# EAGLE library part STM32F303VE (library integrated_adc)
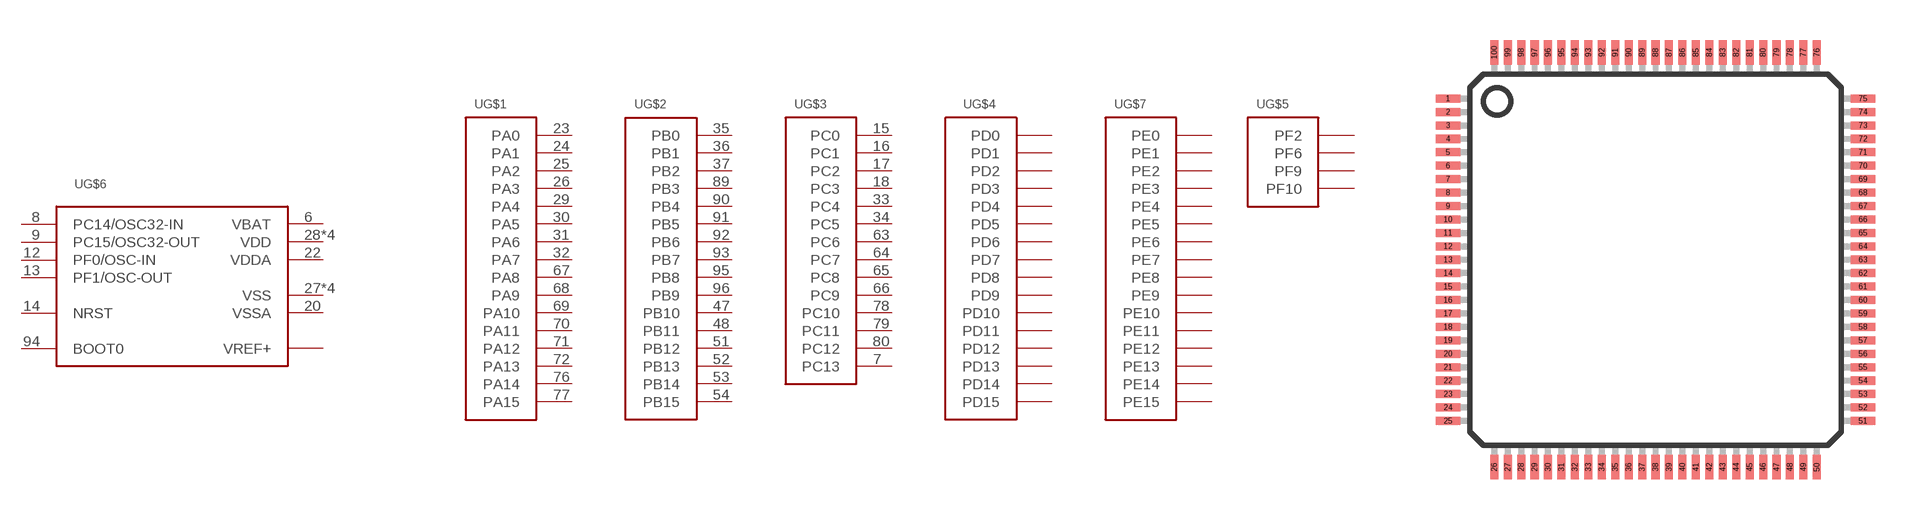
[diagram p4: symbol with the pads of LQFP100; footprint LQFP100]

Designator prefix -; gates G$1=STM32F303VE-PORTA G$2=STM32F303VE-PORTB G$3=STM32F303VE-PORTC G$4=STM32F303VE-PORTD G$5=STM32F303VE-PORTF G$6=STM32F303VE-PWR G$7=STM32F303VE-PORTE

## STM32F303VE  [LQFP100]
1  G$7:PE2  in
2  G$7:PE3  in
3  G$7:PE4  in
4  G$7:PE5  in
5  G$7:PE6  in
6  G$6:VBAT
7  G$3:PC13
8  G$6:PC14/OSC32-IN
9  G$6:PC15/OSC32-OUT
10  G$5:PF9  in
11  G$5:PF10  in
12  G$6:PF0/OSC-IN
13  G$6:PF1/OSC-OUT
14  G$6:NRST
15  G$3:PC0
16  G$3:PC1
17  G$3:PC2
18  G$3:PC3
19  G$5:PF2  in
20  G$6:VSSA
21  G$6:VREF+  in
22  G$6:VDDA
23  G$1:PA0
24  G$1:PA1
25  G$1:PA2
26  G$1:PA3
27  G$6:VSS
28  G$6:VDD
29  G$1:PA4
30  G$1:PA5
31  G$1:PA6
32  G$1:PA7
33  G$3:PC4
34  G$3:PC5
35  G$2:PB0
36  G$2:PB1
37  G$2:PB2
38  G$7:PE7  in
39  G$7:PE8  in
40  G$7:PE9  in
41  G$7:PE10  in
42  G$7:PE11  in
43  G$7:PE12  in
44  G$7:PE13  in
45  G$7:PE14  in
46  G$7:PE15  in
47  G$2:PB10
48  G$2:PB11
49  G$6:VSS
50  G$6:VDD
51  G$2:PB12
52  G$2:PB13
53  G$2:PB14
54  G$2:PB15
55  G$4:PD8  in
56  G$4:PD9  in
57  G$4:PD10  in
58  G$4:PD11  in
59  G$4:PD12  in
60  G$4:PD13  in
61  G$4:PD14  in
62  G$4:PD15  in
63  G$3:PC6
64  G$3:PC7
65  G$3:PC8
66  G$3:PC9
67  G$1:PA8
68  G$1:PA9
69  G$1:PA10
70  G$1:PA11
71  G$1:PA12
72  G$1:PA13
73  G$5:PF6  in
74  G$6:VSS
75  G$6:VDD
76  G$1:PA14
77  G$1:PA15
78  G$3:PC10
79  G$3:PC11
80  G$3:PC12
81  G$4:PD0  in
82  G$4:PD1  in
83  G$4:PD2  in
84  G$4:PD3  in
85  G$4:PD4  in
86  G$4:PD5  in
87  G$4:PD6  in
88  G$4:PD7  in
89  G$2:PB3
90  G$2:PB4
91  G$2:PB5
92  G$2:PB6
93  G$2:PB7
94  G$6:BOOT0
95  G$2:PB8
96  G$2:PB9
97  G$7:PE0  in
98  G$7:PE1  in
99  G$6:VSS
100  G$6:VDD

## Footprint LQFP100 (pad centres in mm)
Low Profile Quad Flat Pack
smd 0.9 x 0.3: 1 -7.72,6; 2 -7.72,5.5; 3 -7.72,5; 4 -7.72,4.5; 5 -7.72,4; 6 -7.72,3.5; 7 -7.72,3; 8 -7.72,2.5; 9 -7.72,2; 10 -7.72,1.5; 11 -7.72,1; 12 -7.72,0.5; 13 -7.72,0; 14 -7.72,-0.5; 15 -7.72,-1; 16 -7.72,-1.5; 17 -7.72,-2; 18 -7.72,-2.5; 19 -7.72,-3; 20 -7.72,-3.5; 21 -7.72,-4; 22 -7.72,-4.5; 23 -7.72,-5; 24 -7.72,-5.5; 25 -7.72,-6; 51 7.72,-6; 52 7.72,-5.5; 53 7.72,-5; 54 7.72,-4.5; 55 7.72,-4; 56 7.72,-3.5; 57 7.72,-3; 58 7.72,-2.5; 59 7.72,-2; 60 7.72,-1.5; 61 7.72,-1; 62 7.72,-0.5; 63 7.72,0; 64 7.72,0.5; 65 7.72,1; 66 7.72,1.5; 67 7.72,2; 68 7.72,2.5; 69 7.72,3; 70 7.72,3.5; 71 7.72,4; 72 7.72,4.5; 73 7.72,5; 74 7.72,5.5; 75 7.72,6
smd 0.3 x 0.9: 26 -6,-7.72; 27 -5.5,-7.72; 28 -5,-7.72; 29 -4.5,-7.72; 30 -4,-7.72; 31 -3.5,-7.72; 32 -3,-7.72; 33 -2.5,-7.72; 34 -2,-7.72; 35 -1.5,-7.72; 36 -1,-7.72; 37 -0.5,-7.72; 38 0,-7.72; 39 0.5,-7.72; 40 1,-7.72; 41 1.5,-7.72; 42 2,-7.72; 43 2.5,-7.72; 44 3,-7.72; 45 3.5,-7.72; 46 4,-7.72; 47 4.5,-7.72; 48 5,-7.72; 49 5.5,-7.72; 50 6,-7.72; 76 6,7.72; 77 5.5,7.72; 78 5,7.72; 79 4.5,7.72; 80 4,7.72; 81 3.5,7.72; 82 3,7.72; 83 2.5,7.72; 84 2,7.72; 85 1.5,7.72; 86 1,7.72; 87 0.5,7.72; 88 0,7.72; 89 -0.5,7.72; 90 -1,7.72; 91 -1.5,7.72; 92 -2,7.72; 93 -2.5,7.72; 94 -3,7.72; 95 -3.5,7.72; 96 -4,7.72; 97 -4.5,7.72; 98 -5,7.72; 99 -5.5,7.72; 100 -6,7.72